# EAGLE library part ADUM1301 (library analog-devices)
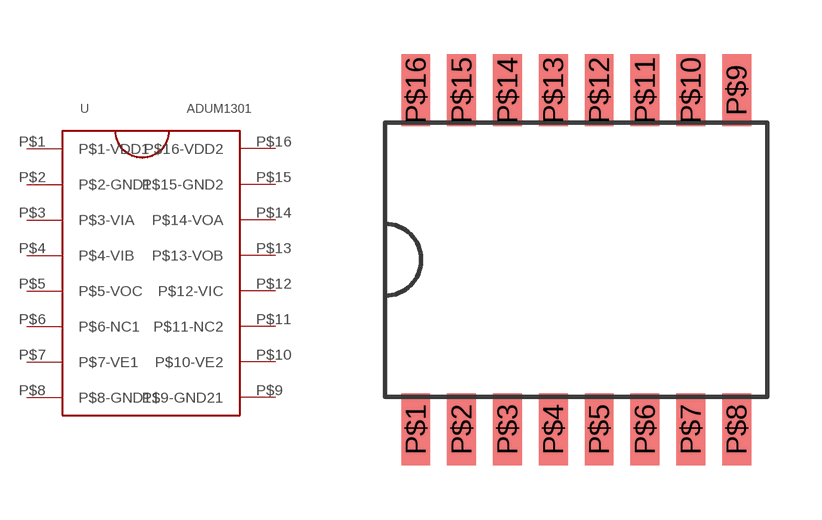
[diagram p23: symbol with the pads of RW-16; footprint RW-16]

Designator prefix -

## ADUM1301  [RW-16]
P$1  P$1-VDD1
P$2  P$2-GND1
P$3  P$3-VIA
P$4  P$4-VIB
P$5  P$5-VOC
P$6  P$6-NC1
P$7  P$7-VE1
P$8  P$8-GND11
P$9  P$9-GND21
P$10  P$10-VE2
P$11  P$11-NC2
P$12  P$12-VIC
P$13  P$13-VOB
P$14  P$14-VOA
P$15  P$15-GND2
P$16  P$16-VDD2

## Footprint RW-16 (pad centres in mm)
smd 0.8 x 2: P$1 -4.445,-4.7; P$2 -3.175,-4.7; P$3 -1.905,-4.7; P$4 -0.635,-4.7; P$5 0.635,-4.7; P$6 1.905,-4.7; P$7 3.175,-4.7; P$8 4.445,-4.7; P$9 4.445,4.7; P$10 3.175,4.7; P$11 1.905,4.7; P$12 0.635,4.7; P$13 -0.635,4.7; P$14 -1.905,4.7; P$15 -3.175,4.7; P$16 -4.445,4.7